# Altium schematic symbol library 2SC1815GRTE2FT.SchLib: 1 symbol
Pins are listed as number, name and electrical type; pins without a type are passive.

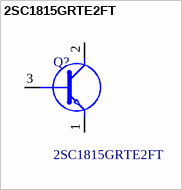
[diagram p0: symbol 2SC1815GRTE2FT]

## 2SC1815GRTE2FT
designator Q?
Transistor Silicon NPN Epitaxial Type (PCT process); Manufacturer_Name: Toshiba; Geometry.Height: 4.7mm; RS Part Number: *; RS Price/Stock: *; Manufacturer_Part_Number: 2SC1815GRTE2FT; Datasheet Link: http://media.digikey.com/pdf/Data%20Sheets/Toshiba%20PDFs/2SC1815.pdf
footprint 2SC1815GRTE2FT
pins: 1 E, 2 C, 3 B